# Altium schematic symbol library switch_4c.SchLib: 1 symbol
Pins are listed as number, name and electrical type; pins without a type are passive.

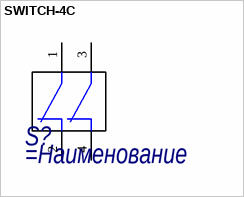
[diagram p0: symbol SWITCH-4C]

## SWITCH-4C
designator S?
=Описание
pins: 1, 2, 3, 4